# Altium integrated library TI_Logic_Specialty_Logic.IntLib: 2504 symbols (part 49 of 81)
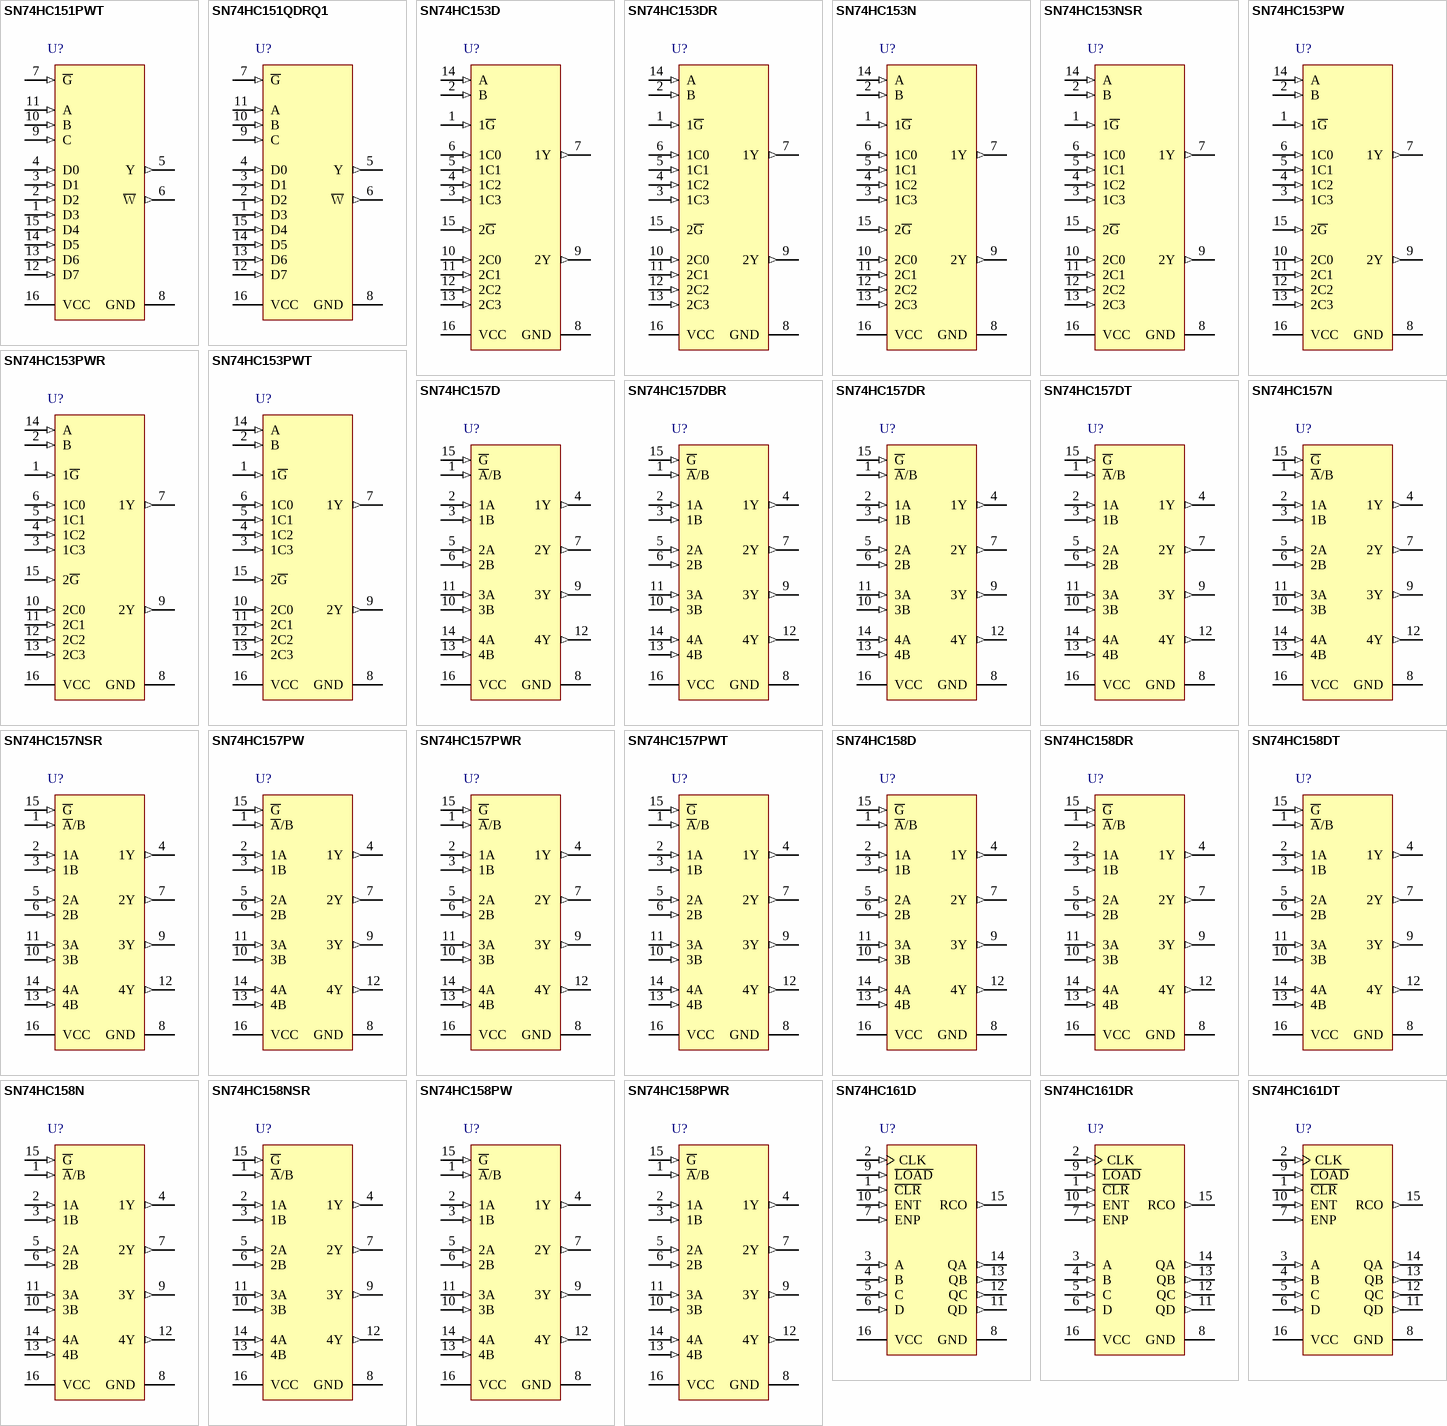
[diagram p152: symbols SN74HC151PWT to SN74HC161DT]

## SN74HC161DT
designator U?
4-Bit Synchronous Binary Counters, D0016A, SMALL T&R; Generic Part Number: SN74HC161; Manufacturer: Texas Instruments; PartNumber: SN74HC161DT; VCC(Min)(V): 2; VCC(Max)(V): 6; Output Type: CMOS; Inputs: 1; ICC @ Nom Voltage(Max)(mA): 0.08; Input Type: LVTTL/CMOS; Bits(#): 4; F @ Nom Voltage(Max)(Mhz): 28; Rating: Catalog; Technology Family: HC; Voltage(Nom)(V): 3.3,5; Schmitt Trigger: No; Output Drive (IOL/IOH)(Max)(mA): 5.2/-5.2; tpd @ Nom Voltage(Max)(ns): 46; DatasheetVersion: SCLS297D; PackageReference: D0016A; Supplier 1: Mouser; Supplier Part Number 1: 595-SN74HC161DT; Supplier 2: Digi-Key; Supplier Part Number 2: SN74HC161DT-ND; Function: Counter; Operating Temperature Range(C): -40 to 85; Type: Binary; Code_JEDEC: MS-012 variation AC; ComponentLink1Description: Manufacturer URL; ComponentLink1URL: http://www.ti.com/; ComponentLink2Description: Datasheet; ComponentLink2URL: http://www.ti.com/lit/ds/symlink/sn74hc161.pdf; ComponentLink3Description: Package Specification; ComponentLink3URL: http://www.ti.com/lit/ml/mpds178g/mpds178g.pdf
footprint D0016A_N (SOIC, 16-Leads, Body 10x4mm, Pitch 1.27mm, IPC Medium Density)
footprint D0016A_M (SOIC, 16-Leads, Body 10x4mm, Pitch 1.27mm, IPC Low Density)
footprint D0016A_L (SOIC, 16-Leads, Body 10x4mm, Pitch 1.27mm, IPC High Density)
pins: 1 ~{CLR} (in), 2 CLK (in), 3 A (in), 4 B (in), 5 C (in), 6 D (in), 7 ENP (in), 8 GND (power), 9 ~{LOAD} (in), 10 ENT (in), 11 QD (out), 12 QC (out), 13 QB (out), 14 QA (out), 15 RCO (out), 16 VCC (power)

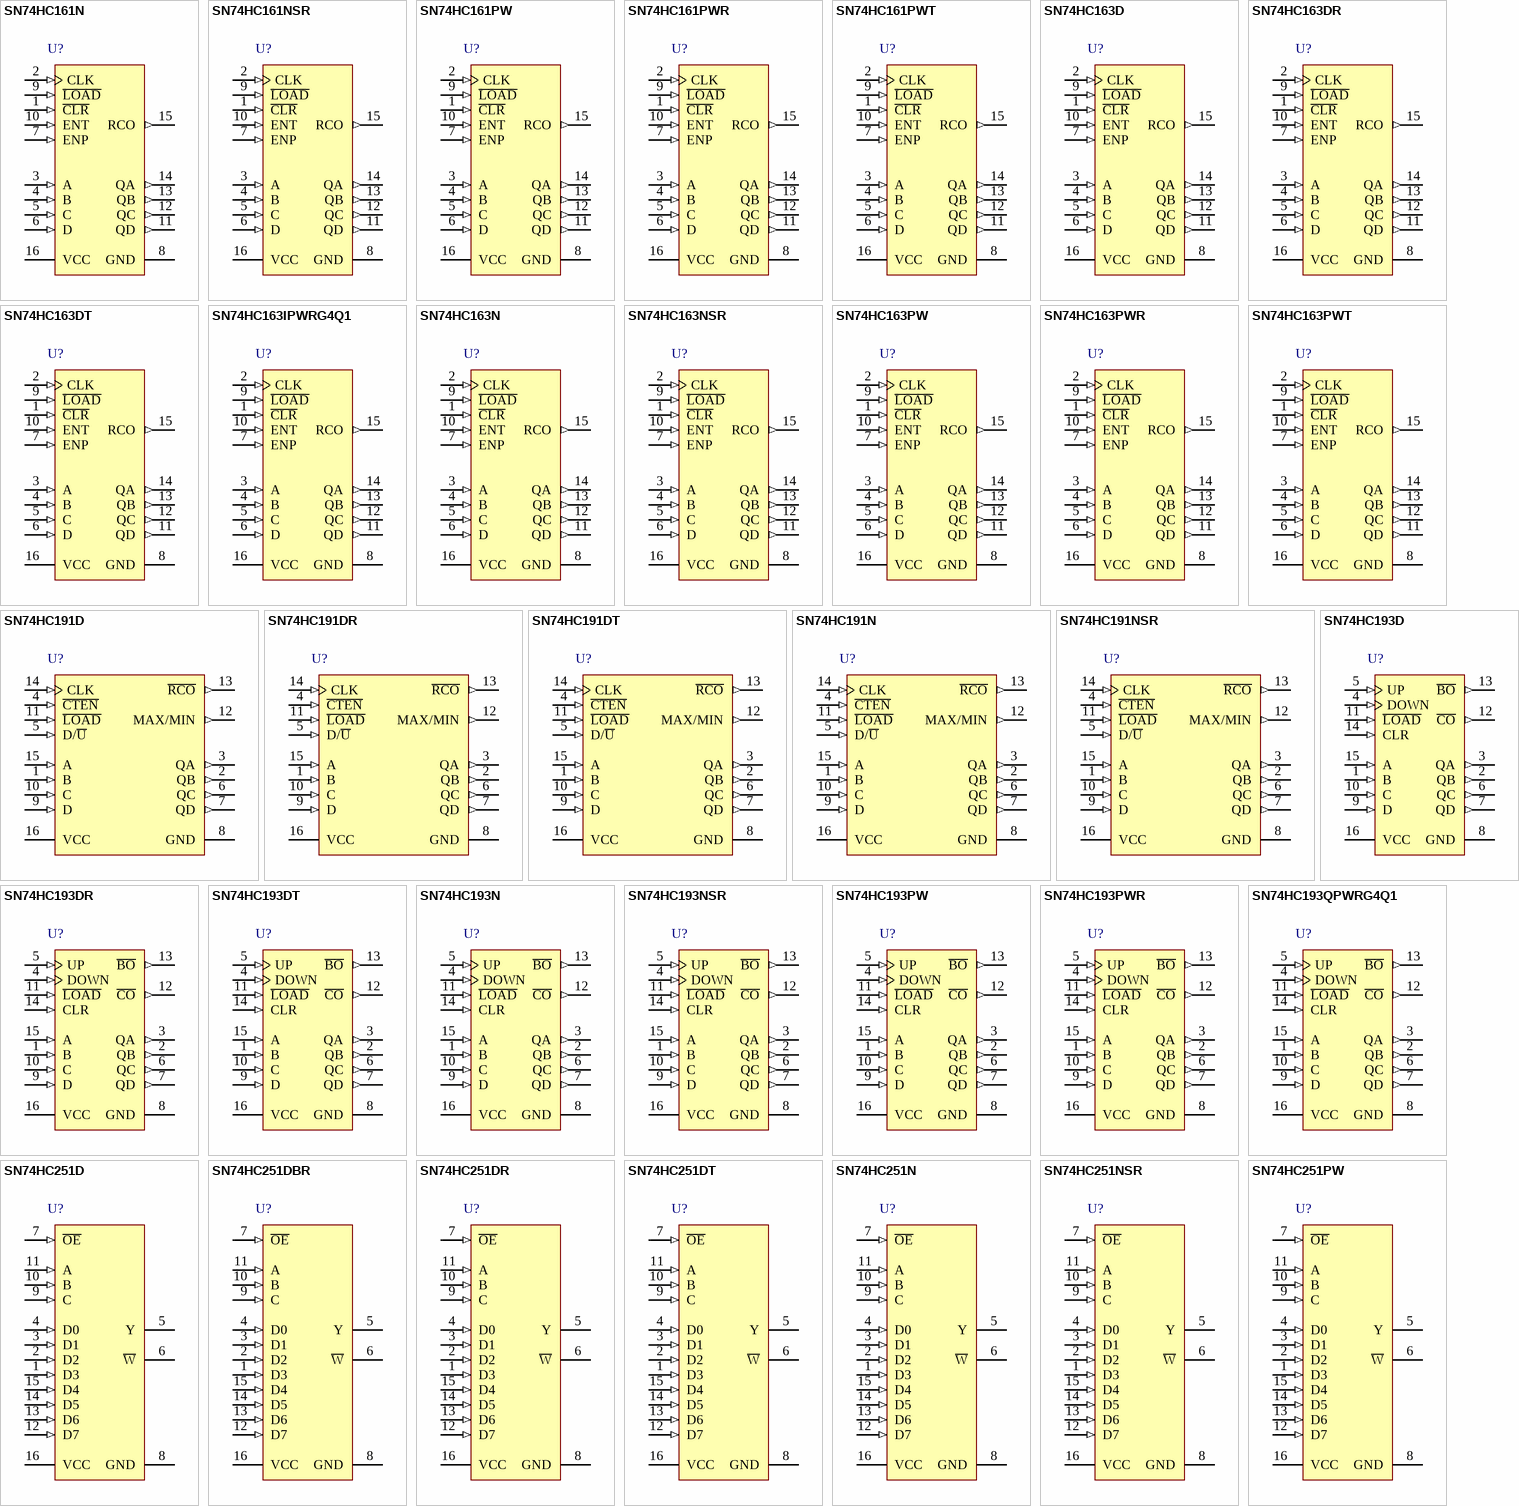
[diagram p62: symbols SN74HC161N to SN74HC251PW]

## SN74HC161N
designator U?
4-Bit Synchronous Binary Counters, N0016A, TUBE; Generic Part Number: SN74HC161; Manufacturer: Texas Instruments; PartNumber: SN74HC161N; VCC(Min)(V): 2; VCC(Max)(V): 6; Output Type: CMOS; Inputs: 1; ICC @ Nom Voltage(Max)(mA): 0.08; Input Type: LVTTL/CMOS; Bits(#): 4; F @ Nom Voltage(Max)(Mhz): 28; Rating: Catalog; Technology Family: HC; Voltage(Nom)(V): 3.3,5; Schmitt Trigger: No; Output Drive (IOL/IOH)(Max)(mA): 5.2/-5.2; tpd @ Nom Voltage(Max)(ns): 46; DatasheetVersion: SCLS297D; PackageReference: N0016A; Supplier 1: Mouser; Supplier Part Number 1: 595-SN74HC161N; Supplier 2: Digi-Key; Supplier Part Number 2: 296-8244-5-ND; Function: Counter; Operating Temperature Range(C): -40 to 85; Type: Binary; Code_JEDEC: MS-001; ComponentLink1Description: Manufacturer URL; ComponentLink1URL: http://www.ti.com/; ComponentLink2Description: Datasheet; ComponentLink2URL: http://www.ti.com/lit/ds/symlink/sn74hc161.pdf; ComponentLink3Description: Package Specification; ComponentLink3URL: http://www.ti.com/lit/ml/mpdi002c/mpdi002c.pdf
footprint N0016A (DIP, 16-Leads, Body 19.7x6.6mm, Pitch 2.54mm)
pins: 1 ~{CLR} (in), 2 CLK (in), 3 A (in), 4 B (in), 5 C (in), 6 D (in), 7 ENP (in), 8 GND (power), 9 ~{LOAD} (in), 10 ENT (in), 11 QD (out), 12 QC (out), 13 QB (out), 14 QA (out), 15 RCO (out), 16 VCC (power)

## SN74HC161NSR
designator U?
4-Bit Synchronous Binary Counters, NS0016A, LARGE T&R; Generic Part Number: SN74HC161; Manufacturer: Texas Instruments; PartNumber: SN74HC161NSR; VCC(Min)(V): 2; VCC(Max)(V): 6; Output Type: CMOS; Inputs: 1; ICC @ Nom Voltage(Max)(mA): 0.08; Input Type: LVTTL/CMOS; Bits(#): 4; F @ Nom Voltage(Max)(Mhz): 28; Rating: Catalog; Technology Family: HC; Voltage(Nom)(V): 3.3,5; Schmitt Trigger: No; Output Drive (IOL/IOH)(Max)(mA): 5.2/-5.2; tpd @ Nom Voltage(Max)(ns): 46; DatasheetVersion: SCLS297D; PackageReference: NS0016A; Supplier 1: Mouser; Supplier Part Number 1: 595-SN74HC161NSR; Supplier 2: Digi-Key; Supplier Part Number 2: 296-29976-2-ND; Supplier 3: Digi-Key; Supplier Part Number 3: 296-29976-1-ND; Supplier 4: Digi-Key; Supplier Part Number 4: 296-29976-6-ND; Function: Counter; Operating Temperature Range(C): -40 to 85; Type: Binary; ComponentLink1Description: Manufacturer URL; ComponentLink1URL: http://www.ti.com/; ComponentLink2Description: Datasheet; ComponentLink2URL: http://www.ti.com/lit/ds/symlink/sn74hc161.pdf; ComponentLink3Description: Package Specification; ComponentLink3URL: http://www.ti.com/lit/ml/msop002a/msop002a.pdf
footprint NS0016A_N (SOIC,16-Leads,Body 10.5x5.6mm,Pitch 1.27mm,IPC Medium Density)
footprint NS0016A_M (SOIC,16-Leads,Body 10.5x5.6mm,Pitch 1.27mm,IPC Low Density)
footprint NS0016A_L (SOIC,16-Leads,Body 10.5x5.6mm,Pitch 1.27mm,IPC High Density)
pins: 1 ~{CLR} (in), 2 CLK (in), 3 A (in), 4 B (in), 5 C (in), 6 D (in), 7 ENP (in), 8 GND (power), 9 ~{LOAD} (in), 10 ENT (in), 11 QD (out), 12 QC (out), 13 QB (out), 14 QA (out), 15 RCO (out), 16 VCC (power)

## SN74HC161PW
designator U?
4-Bit Synchronous Binary Counters, PW0016A, TUBE; Generic Part Number: SN74HC161; Manufacturer: Texas Instruments; PartNumber: SN74HC161PW; VCC(Min)(V): 2; VCC(Max)(V): 6; Output Type: CMOS; Inputs: 1; ICC @ Nom Voltage(Max)(mA): 0.08; Input Type: LVTTL/CMOS; Bits(#): 4; F @ Nom Voltage(Max)(Mhz): 28; Rating: Catalog; Technology Family: HC; Voltage(Nom)(V): 3.3,5; Schmitt Trigger: No; Output Drive (IOL/IOH)(Max)(mA): 5.2/-5.2; tpd @ Nom Voltage(Max)(ns): 46; DatasheetVersion: SCLS297D; PackageReference: PW0016A; Supplier 1: Mouser; Supplier Part Number 1: 595-SN74HC161PW; Supplier 2: Digi-Key; Supplier Part Number 2: 296-33922-5-ND; Function: Counter; Operating Temperature Range(C): -40 to 85; Type: Binary; Code_JEDEC: MO-153; ComponentLink1Description: Manufacturer URL; ComponentLink1URL: http://www.ti.com/; ComponentLink2Description: Datasheet; ComponentLink2URL: http://www.ti.com/lit/ds/symlink/sn74hc161.pdf; ComponentLink3Description: Package Specification; ComponentLink3URL: http://www.ti.com/lit/ml/mpds361/mpds361.pdf
footprint PW0016A_N (SOP, 16-Leads, Body 5.1x4.5mm, Pitch 0.65mm, IPC Medium Density)
footprint PW0016A_M (SOP, 16-Leads, Body 5.1x4.5mm, Pitch 0.65mm, IPC Low Density)
footprint PW0016A_L (SOP, 16-Leads, Body 5.1x4.5mm, Pitch 0.65mm, IPC High Density)
pins: 1 ~{CLR} (in), 2 CLK (in), 3 A (in), 4 B (in), 5 C (in), 6 D (in), 7 ENP (in), 8 GND (power), 9 ~{LOAD} (in), 10 ENT (in), 11 QD (out), 12 QC (out), 13 QB (out), 14 QA (out), 15 RCO (out), 16 VCC (power)

## SN74HC161PWR
designator U?
4-Bit Synchronous Binary Counters, PW0016A, LARGE T&R; Generic Part Number: SN74HC161; Manufacturer: Texas Instruments; PartNumber: SN74HC161PWR; VCC(Min)(V): 2; VCC(Max)(V): 6; Output Type: CMOS; Inputs: 1; ICC @ Nom Voltage(Max)(mA): 0.08; Input Type: LVTTL/CMOS; Bits(#): 4; F @ Nom Voltage(Max)(Mhz): 28; Rating: Catalog; Technology Family: HC; Voltage(Nom)(V): 3.3,5; Schmitt Trigger: No; Output Drive (IOL/IOH)(Max)(mA): 5.2/-5.2; tpd @ Nom Voltage(Max)(ns): 46; DatasheetVersion: SCLS297D; PackageReference: PW0016A; Supplier 1: Mouser; Supplier Part Number 1: 595-SN74HC161PWR; Supplier 2: Digi-Key; Supplier Part Number 2: 296-38231-2-ND; Supplier 3: Digi-Key; Supplier Part Number 3: 296-38231-1-ND; Supplier 4: Digi-Key; Supplier Part Number 4: 296-38231-6-ND; Function: Counter; Operating Temperature Range(C): -40 to 85; Type: Binary; Code_JEDEC: MO-153; ComponentLink1Description: Manufacturer URL; ComponentLink1URL: http://www.ti.com/; ComponentLink2Description: Datasheet; ComponentLink2URL: http://www.ti.com/lit/ds/symlink/sn74hc161.pdf; ComponentLink3Description: Package Specification; ComponentLink3URL: http://www.ti.com/lit/ml/mpds361/mpds361.pdf
footprint PW0016A_N (SOP, 16-Leads, Body 5.1x4.5mm, Pitch 0.65mm, IPC Medium Density)
footprint PW0016A_M (SOP, 16-Leads, Body 5.1x4.5mm, Pitch 0.65mm, IPC Low Density)
footprint PW0016A_L (SOP, 16-Leads, Body 5.1x4.5mm, Pitch 0.65mm, IPC High Density)
pins: 1 ~{CLR} (in), 2 CLK (in), 3 A (in), 4 B (in), 5 C (in), 6 D (in), 7 ENP (in), 8 GND (power), 9 ~{LOAD} (in), 10 ENT (in), 11 QD (out), 12 QC (out), 13 QB (out), 14 QA (out), 15 RCO (out), 16 VCC (power)

## SN74HC161PWT
designator U?
4-Bit Synchronous Binary Counters, PW0016A, SMALL T&R; Generic Part Number: SN74HC161; Manufacturer: Texas Instruments; PartNumber: SN74HC161PWT; VCC(Min)(V): 2; VCC(Max)(V): 6; Output Type: CMOS; Inputs: 1; ICC @ Nom Voltage(Max)(mA): 0.08; Input Type: LVTTL/CMOS; Bits(#): 4; F @ Nom Voltage(Max)(Mhz): 28; Rating: Catalog; Technology Family: HC; Voltage(Nom)(V): 3.3,5; Schmitt Trigger: No; Output Drive (IOL/IOH)(Max)(mA): 5.2/-5.2; tpd @ Nom Voltage(Max)(ns): 46; DatasheetVersion: SCLS297D; PackageReference: PW0016A; Supplier 1: Mouser; Supplier Part Number 1: 595-SN74HC161PWT; Supplier 2: Digi-Key; Supplier Part Number 2: 296-28657-2-ND; Supplier 3: Digi-Key; Supplier Part Number 3: 296-28657-1-ND; Supplier 4: Digi-Key; Supplier Part Number 4: 296-28657-6-ND; Function: Counter; Operating Temperature Range(C): -40 to 85; Type: Binary; Code_JEDEC: MO-153; ComponentLink1Description: Manufacturer URL; ComponentLink1URL: http://www.ti.com/; ComponentLink2Description: Datasheet; ComponentLink2URL: http://www.ti.com/lit/ds/symlink/sn74hc161.pdf; ComponentLink3Description: Package Specification; ComponentLink3URL: http://www.ti.com/lit/ml/mpds361/mpds361.pdf
footprint PW0016A_N (SOP, 16-Leads, Body 5.1x4.5mm, Pitch 0.65mm, IPC Medium Density)
footprint PW0016A_M (SOP, 16-Leads, Body 5.1x4.5mm, Pitch 0.65mm, IPC Low Density)
footprint PW0016A_L (SOP, 16-Leads, Body 5.1x4.5mm, Pitch 0.65mm, IPC High Density)
pins: 1 ~{CLR} (in), 2 CLK (in), 3 A (in), 4 B (in), 5 C (in), 6 D (in), 7 ENP (in), 8 GND (power), 9 ~{LOAD} (in), 10 ENT (in), 11 QD (out), 12 QC (out), 13 QB (out), 14 QA (out), 15 RCO (out), 16 VCC (power)

## SN74HC163D
designator U?
4-Bit Synchronous Binary Counters, D0016A, TUBE; Generic Part Number: SN74HC163; Manufacturer: Texas Instruments; PartNumber: SN74HC163D; VCC(Min)(V): 2; VCC(Max)(V): 6; Output Type: CMOS; Inputs: 1; ICC @ Nom Voltage(Max)(mA): 0.08; Input Type: LVTTL/CMOS; Bits(#): 4; F @ Nom Voltage(Max)(Mhz): 28; Rating: Catalog; Technology Family: HC; Voltage(Nom)(V): 3.3,5; Schmitt Trigger: No; Output Drive (IOL/IOH)(Max)(mA): 5.2/-5.2; tpd @ Nom Voltage(Max)(ns): 46; DatasheetVersion: SCLS298D; PackageReference: D0016A; Supplier 1: Mouser; Supplier Part Number 1: 595-SN74HC163D; Supplier 2: Digi-Key; Supplier Part Number 2: 296-8245-5-ND; Function: Counter; Operating Temperature Range(C): -40 to 85; Type: Binary; Code_JEDEC: MS-012 variation AC; ComponentLink1Description: Manufacturer URL; ComponentLink1URL: http://www.ti.com/; ComponentLink2Description: Datasheet; ComponentLink2URL: http://www.ti.com/lit/ds/symlink/sn74hc163.pdf; ComponentLink3Description: Package Specification; ComponentLink3URL: http://www.ti.com/lit/ml/mpds178g/mpds178g.pdf
footprint D0016A_N (SOIC, 16-Leads, Body 10x4mm, Pitch 1.27mm, IPC Medium Density)
footprint D0016A_M (SOIC, 16-Leads, Body 10x4mm, Pitch 1.27mm, IPC Low Density)
footprint D0016A_L (SOIC, 16-Leads, Body 10x4mm, Pitch 1.27mm, IPC High Density)
pins: 1 ~{CLR} (in), 2 CLK (in), 3 A (in), 4 B (in), 5 C (in), 6 D (in), 7 ENP (in), 8 GND (power), 9 ~{LOAD} (in), 10 ENT (in), 11 QD (out), 12 QC (out), 13 QB (out), 14 QA (out), 15 RCO (out), 16 VCC (power)

## SN74HC163DR
designator U?
4-Bit Synchronous Binary Counters, D0016A, LARGE T&R; Generic Part Number: SN74HC163; Manufacturer: Texas Instruments; PartNumber: SN74HC163DR; VCC(Min)(V): 2; VCC(Max)(V): 6; Output Type: CMOS; Inputs: 1; ICC @ Nom Voltage(Max)(mA): 0.08; Input Type: LVTTL/CMOS; Bits(#): 4; F @ Nom Voltage(Max)(Mhz): 28; Rating: Catalog; Technology Family: HC; Voltage(Nom)(V): 3.3,5; Schmitt Trigger: No; Output Drive (IOL/IOH)(Max)(mA): 5.2/-5.2; tpd @ Nom Voltage(Max)(ns): 46; DatasheetVersion: SCLS298D; PackageReference: D0016A; Supplier 1: Mouser; Supplier Part Number 1: 595-SN74HC163DR; Supplier 2: Digi-Key; Supplier Part Number 2: 296-31790-2-ND; Supplier 3: Digi-Key; Supplier Part Number 3: 296-31790-1-ND; Supplier 4: Digi-Key; Supplier Part Number 4: 296-31790-6-ND; Function: Counter; Operating Temperature Range(C): -40 to 85; Type: Binary; Code_JEDEC: MS-012 variation AC; ComponentLink1Description: Manufacturer URL; ComponentLink1URL: http://www.ti.com/; ComponentLink2Description: Datasheet; ComponentLink2URL: http://www.ti.com/lit/ds/symlink/sn74hc163.pdf; ComponentLink3Description: Package Specification; ComponentLink3URL: http://www.ti.com/lit/ml/mpds178g/mpds178g.pdf
footprint D0016A_N (SOIC, 16-Leads, Body 10x4mm, Pitch 1.27mm, IPC Medium Density)
footprint D0016A_M (SOIC, 16-Leads, Body 10x4mm, Pitch 1.27mm, IPC Low Density)
footprint D0016A_L (SOIC, 16-Leads, Body 10x4mm, Pitch 1.27mm, IPC High Density)
pins: 1 ~{CLR} (in), 2 CLK (in), 3 A (in), 4 B (in), 5 C (in), 6 D (in), 7 ENP (in), 8 GND (power), 9 ~{LOAD} (in), 10 ENT (in), 11 QD (out), 12 QC (out), 13 QB (out), 14 QA (out), 15 RCO (out), 16 VCC (power)

## SN74HC163DT
designator U?
4-Bit Synchronous Binary Counters, D0016A, SMALL T&R; Generic Part Number: SN74HC163; Manufacturer: Texas Instruments; PartNumber: SN74HC163DT; VCC(Min)(V): 2; VCC(Max)(V): 6; Output Type: CMOS; Inputs: 1; ICC @ Nom Voltage(Max)(mA): 0.08; Input Type: LVTTL/CMOS; Bits(#): 4; F @ Nom Voltage(Max)(Mhz): 28; Rating: Catalog; Technology Family: HC; Voltage(Nom)(V): 3.3,5; Schmitt Trigger: No; Output Drive (IOL/IOH)(Max)(mA): 5.2/-5.2; tpd @ Nom Voltage(Max)(ns): 46; DatasheetVersion: SCLS298D; PackageReference: D0016A; Supplier 1: Mouser; Supplier Part Number 1: 595-SN74HC163DT; Supplier 2: Digi-Key; Supplier Part Number 2: SN74HC163DT-ND; Function: Counter; Operating Temperature Range(C): -40 to 85; Type: Binary; Code_JEDEC: MS-012 variation AC; ComponentLink1Description: Manufacturer URL; ComponentLink1URL: http://www.ti.com/; ComponentLink2Description: Datasheet; ComponentLink2URL: http://www.ti.com/lit/ds/symlink/sn74hc163.pdf; ComponentLink3Description: Package Specification; ComponentLink3URL: http://www.ti.com/lit/ml/mpds178g/mpds178g.pdf
footprint D0016A_N (SOIC, 16-Leads, Body 10x4mm, Pitch 1.27mm, IPC Medium Density)
footprint D0016A_M (SOIC, 16-Leads, Body 10x4mm, Pitch 1.27mm, IPC Low Density)
footprint D0016A_L (SOIC, 16-Leads, Body 10x4mm, Pitch 1.27mm, IPC High Density)
pins: 1 ~{CLR} (in), 2 CLK (in), 3 A (in), 4 B (in), 5 C (in), 6 D (in), 7 ENP (in), 8 GND (power), 9 ~{LOAD} (in), 10 ENT (in), 11 QD (out), 12 QC (out), 13 QB (out), 14 QA (out), 15 RCO (out), 16 VCC (power)

## SN74HC163IPWRG4Q1
designator U?
Automotive Catalog 4-Bit Synchronous Binary Counters, PW0016A, LARGE T&R; Generic Part Number: SN74HC163-Q1; Manufacturer: Texas Instruments; PartNumber: SN74HC163IPWRG4Q1; VCC(Min)(V): 2; VCC(Max)(V): 6; Output Type: CMOS; Inputs: 1; ICC @ Nom Voltage(Max)(mA): 0.08; Input Type: LVTTL/CMOS; Bits(#): 4; F @ Nom Voltage(Max)(Mhz): 28; Technology Family: HC; Voltage(Nom)(V): 3.3,5; Schmitt Trigger: No; Output Drive (IOL/IOH)(Max)(mA): 5.2/-5.2; tpd @ Nom Voltage(Max)(ns): 46; DatasheetVersion: SCLS584A; PackageReference: PW0016A; Supplier 1: Mouser; Supplier Part Number 1: 595-N74HC163IPWRG4Q1; Supplier 2: Digi-Key; Supplier Part Number 2: 296-28965-2-ND; Supplier 3: Digi-Key; Supplier Part Number 3: 296-28965-1-ND; Supplier 4: Digi-Key; Supplier Part Number 4: 296-28965-6-ND; Function: Counter; Operating Temperature Range(C): -40 to 85; Type: Binary; Rating: Automotive; Code_JEDEC: MO-153; ComponentLink1Description: Manufacturer URL; ComponentLink1URL: http://www.ti.com/; ComponentLink2Description: Datasheet; ComponentLink2URL: http://www.ti.com/lit/ds/symlink/sn74hc163-q1.pdf; ComponentLink3Description: Package Specification; ComponentLink3URL: http://www.ti.com/lit/ml/mpds361/mpds361.pdf
footprint PW0016A_N (SOP, 16-Leads, Body 5.1x4.5mm, Pitch 0.65mm, IPC Medium Density)
footprint PW0016A_M (SOP, 16-Leads, Body 5.1x4.5mm, Pitch 0.65mm, IPC Low Density)
footprint PW0016A_L (SOP, 16-Leads, Body 5.1x4.5mm, Pitch 0.65mm, IPC High Density)
pins: 1 ~{CLR} (in), 2 CLK (in), 3 A (in), 4 B (in), 5 C (in), 6 D (in), 7 ENP (in), 8 GND (power), 9 ~{LOAD} (in), 10 ENT (in), 11 QD (out), 12 QC (out), 13 QB (out), 14 QA (out), 15 RCO (out), 16 VCC (power)

## SN74HC163N
designator U?
4-Bit Synchronous Binary Counters, N0016A, TUBE; Generic Part Number: SN74HC163; Manufacturer: Texas Instruments; PartNumber: SN74HC163N; VCC(Min)(V): 2; VCC(Max)(V): 6; Output Type: CMOS; Inputs: 1; ICC @ Nom Voltage(Max)(mA): 0.08; Input Type: LVTTL/CMOS; Bits(#): 4; F @ Nom Voltage(Max)(Mhz): 28; Rating: Catalog; Technology Family: HC; Voltage(Nom)(V): 3.3,5; Schmitt Trigger: No; Output Drive (IOL/IOH)(Max)(mA): 5.2/-5.2; tpd @ Nom Voltage(Max)(ns): 46; DatasheetVersion: SCLS298D; PackageReference: N0016A; Supplier 1: Mouser; Supplier Part Number 1: 595-SN74HC163N; Supplier 2: Digi-Key; Supplier Part Number 2: 296-8246-5-ND; Function: Counter; Operating Temperature Range(C): -40 to 85; Type: Binary; Code_JEDEC: MS-001; ComponentLink1Description: Manufacturer URL; ComponentLink1URL: http://www.ti.com/; ComponentLink2Description: Datasheet; ComponentLink2URL: http://www.ti.com/lit/ds/symlink/sn74hc163.pdf; ComponentLink3Description: Package Specification; ComponentLink3URL: http://www.ti.com/lit/ml/mpdi002c/mpdi002c.pdf
footprint N0016A (DIP, 16-Leads, Body 19.7x6.6mm, Pitch 2.54mm)
pins: 1 ~{CLR} (in), 2 CLK (in), 3 A (in), 4 B (in), 5 C (in), 6 D (in), 7 ENP (in), 8 GND (power), 9 ~{LOAD} (in), 10 ENT (in), 11 QD (out), 12 QC (out), 13 QB (out), 14 QA (out), 15 RCO (out), 16 VCC (power)

## SN74HC163NSR
designator U?
4-Bit Synchronous Binary Counters, NS0016A, LARGE T&R; Generic Part Number: SN74HC163; Manufacturer: Texas Instruments; PartNumber: SN74HC163NSR; VCC(Min)(V): 2; VCC(Max)(V): 6; Output Type: CMOS; Inputs: 1; ICC @ Nom Voltage(Max)(mA): 0.08; Input Type: LVTTL/CMOS; Bits(#): 4; F @ Nom Voltage(Max)(Mhz): 28; Rating: Catalog; Technology Family: HC; Voltage(Nom)(V): 3.3,5; Schmitt Trigger: No; Output Drive (IOL/IOH)(Max)(mA): 5.2/-5.2; tpd @ Nom Voltage(Max)(ns): 46; DatasheetVersion: SCLS298D; PackageReference: NS0016A; Supplier 1: Mouser; Supplier Part Number 1: 595-SN74HC163NSR; Supplier 2: Digi-Key; Supplier Part Number 2: 296-12889-2-ND; Supplier 3: Digi-Key; Supplier Part Number 3: 296-12889-1-ND; Supplier 4: Digi-Key; Supplier Part Number 4: 296-12889-6-ND; Function: Counter; Operating Temperature Range(C): -40 to 85; Type: Binary; ComponentLink1Description: Manufacturer URL; ComponentLink1URL: http://www.ti.com/; ComponentLink2Description: Datasheet; ComponentLink2URL: http://www.ti.com/lit/ds/symlink/sn74hc163.pdf; ComponentLink3Description: Package Specification; ComponentLink3URL: http://www.ti.com/lit/ml/msop002a/msop002a.pdf
footprint NS0016A_N (SOIC,16-Leads,Body 10.5x5.6mm,Pitch 1.27mm,IPC Medium Density)
footprint NS0016A_M (SOIC,16-Leads,Body 10.5x5.6mm,Pitch 1.27mm,IPC Low Density)
footprint NS0016A_L (SOIC,16-Leads,Body 10.5x5.6mm,Pitch 1.27mm,IPC High Density)
pins: 1 ~{CLR} (in), 2 CLK (in), 3 A (in), 4 B (in), 5 C (in), 6 D (in), 7 ENP (in), 8 GND (power), 9 ~{LOAD} (in), 10 ENT (in), 11 QD (out), 12 QC (out), 13 QB (out), 14 QA (out), 15 RCO (out), 16 VCC (power)

## SN74HC163PW
designator U?
4-Bit Synchronous Binary Counters, PW0016A, TUBE; Generic Part Number: SN74HC163; Manufacturer: Texas Instruments; PartNumber: SN74HC163PW; VCC(Min)(V): 2; VCC(Max)(V): 6; Output Type: CMOS; Inputs: 1; ICC @ Nom Voltage(Max)(mA): 0.08; Input Type: LVTTL/CMOS; Bits(#): 4; F @ Nom Voltage(Max)(Mhz): 28; Rating: Catalog; Technology Family: HC; Voltage(Nom)(V): 3.3,5; Schmitt Trigger: No; Output Drive (IOL/IOH)(Max)(mA): 5.2/-5.2; tpd @ Nom Voltage(Max)(ns): 46; DatasheetVersion: SCLS298D; PackageReference: PW0016A; Supplier 1: Mouser; Supplier Part Number 1: 595-SN74HC163PW; Supplier 2: Digi-Key; Supplier Part Number 2: SN74HC163PW-ND; Function: Counter; Operating Temperature Range(C): -40 to 85; Type: Binary; Code_JEDEC: MO-153; ComponentLink1Description: Manufacturer URL; ComponentLink1URL: http://www.ti.com/; ComponentLink2Description: Datasheet; ComponentLink2URL: http://www.ti.com/lit/ds/symlink/sn74hc163.pdf; ComponentLink3Description: Package Specification; ComponentLink3URL: http://www.ti.com/lit/ml/mpds361/mpds361.pdf
footprint PW0016A_N (SOP, 16-Leads, Body 5.1x4.5mm, Pitch 0.65mm, IPC Medium Density)
footprint PW0016A_M (SOP, 16-Leads, Body 5.1x4.5mm, Pitch 0.65mm, IPC Low Density)
footprint PW0016A_L (SOP, 16-Leads, Body 5.1x4.5mm, Pitch 0.65mm, IPC High Density)
pins: 1 ~{CLR} (in), 2 CLK (in), 3 A (in), 4 B (in), 5 C (in), 6 D (in), 7 ENP (in), 8 GND (power), 9 ~{LOAD} (in), 10 ENT (in), 11 QD (out), 12 QC (out), 13 QB (out), 14 QA (out), 15 RCO (out), 16 VCC (power)

## SN74HC163PWR
designator U?
4-Bit Synchronous Binary Counters, PW0016A, LARGE T&R; Generic Part Number: SN74HC163; Manufacturer: Texas Instruments; PartNumber: SN74HC163PWR; VCC(Min)(V): 2; VCC(Max)(V): 6; Output Type: CMOS; Inputs: 1; ICC @ Nom Voltage(Max)(mA): 0.08; Input Type: LVTTL/CMOS; Bits(#): 4; F @ Nom Voltage(Max)(Mhz): 28; Rating: Catalog; Technology Family: HC; Voltage(Nom)(V): 3.3,5; Schmitt Trigger: No; Output Drive (IOL/IOH)(Max)(mA): 5.2/-5.2; tpd @ Nom Voltage(Max)(ns): 46; DatasheetVersion: SCLS298D; PackageReference: PW0016A; Supplier 1: Mouser; Supplier Part Number 1: 595-SN74HC163PWR; Supplier 2: Digi-Key; Supplier Part Number 2: SN74HC163PWR-ND; Function: Counter; Operating Temperature Range(C): -40 to 85; Type: Binary; Code_JEDEC: MO-153; ComponentLink1Description: Manufacturer URL; ComponentLink1URL: http://www.ti.com/; ComponentLink2Description: Datasheet; ComponentLink2URL: http://www.ti.com/lit/ds/symlink/sn74hc163.pdf; ComponentLink3Description: Package Specification; ComponentLink3URL: http://www.ti.com/lit/ml/mpds361/mpds361.pdf
footprint PW0016A_N (SOP, 16-Leads, Body 5.1x4.5mm, Pitch 0.65mm, IPC Medium Density)
footprint PW0016A_M (SOP, 16-Leads, Body 5.1x4.5mm, Pitch 0.65mm, IPC Low Density)
footprint PW0016A_L (SOP, 16-Leads, Body 5.1x4.5mm, Pitch 0.65mm, IPC High Density)
pins: 1 ~{CLR} (in), 2 CLK (in), 3 A (in), 4 B (in), 5 C (in), 6 D (in), 7 ENP (in), 8 GND (power), 9 ~{LOAD} (in), 10 ENT (in), 11 QD (out), 12 QC (out), 13 QB (out), 14 QA (out), 15 RCO (out), 16 VCC (power)

## SN74HC163PWT
designator U?
4-Bit Synchronous Binary Counters, PW0016A, SMALL T&R; Generic Part Number: SN74HC163; Manufacturer: Texas Instruments; PartNumber: SN74HC163PWT; VCC(Min)(V): 2; VCC(Max)(V): 6; Output Type: CMOS; Inputs: 1; ICC @ Nom Voltage(Max)(mA): 0.08; Input Type: LVTTL/CMOS; Bits(#): 4; F @ Nom Voltage(Max)(Mhz): 28; Rating: Catalog; Technology Family: HC; Voltage(Nom)(V): 3.3,5; Schmitt Trigger: No; Output Drive (IOL/IOH)(Max)(mA): 5.2/-5.2; tpd @ Nom Voltage(Max)(ns): 46; DatasheetVersion: SCLS298D; PackageReference: PW0016A; Supplier 1: Mouser; Supplier Part Number 1: 595-SN74HC163PWT; Supplier 2: Digi-Key; Supplier Part Number 2: SN74HC163PWT-ND; Function: Counter; Operating Temperature Range(C): -40 to 85; Type: Binary; Code_JEDEC: MO-153; ComponentLink1Description: Manufacturer URL; ComponentLink1URL: http://www.ti.com/; ComponentLink2Description: Datasheet; ComponentLink2URL: http://www.ti.com/lit/ds/symlink/sn74hc163.pdf; ComponentLink3Description: Package Specification; ComponentLink3URL: http://www.ti.com/lit/ml/mpds361/mpds361.pdf
footprint PW0016A_N (SOP, 16-Leads, Body 5.1x4.5mm, Pitch 0.65mm, IPC Medium Density)
footprint PW0016A_M (SOP, 16-Leads, Body 5.1x4.5mm, Pitch 0.65mm, IPC Low Density)
footprint PW0016A_L (SOP, 16-Leads, Body 5.1x4.5mm, Pitch 0.65mm, IPC High Density)
pins: 1 ~{CLR} (in), 2 CLK (in), 3 A (in), 4 B (in), 5 C (in), 6 D (in), 7 ENP (in), 8 GND (power), 9 ~{LOAD} (in), 10 ENT (in), 11 QD (out), 12 QC (out), 13 QB (out), 14 QA (out), 15 RCO (out), 16 VCC (power)

## SN74HC191D
designator U?
4-Bit Synchronous Up/Down Binary Counters, D0016A, TUBE; Generic Part Number: SN74HC191; Manufacturer: Texas Instruments; PartNumber: SN74HC191D; VCC(Min)(V): 2; VCC(Max)(V): 6; Output Type: CMOS; Inputs: 1; ICC @ Nom Voltage(Max)(mA): 0.08; Input Type: LVTTL/CMOS; Bits(#): 4; F @ Nom Voltage(Max)(Mhz): 28; Rating: Catalog; Technology Family: HC; Voltage(Nom)(V): 3.3,5; Schmitt Trigger: No; Output Drive (IOL/IOH)(Max)(mA): 5.2/-5.2; tpd @ Nom Voltage(Max)(ns): 41; DatasheetVersion: SCLS121D; PackageReference: D0016A; Supplier 1: Mouser; Supplier Part Number 1: 595-SN74HC191D; Supplier 2: Digi-Key; Supplier Part Number 2: 296-8259-5-ND; Function: Counter; Operating Temperature Range(C): -40 to 85; Type: Binary; Code_JEDEC: MS-012 variation AC; ComponentLink1Description: Manufacturer URL; ComponentLink1URL: http://www.ti.com/; ComponentLink2Description: Datasheet; ComponentLink2URL: http://www.ti.com/lit/ds/symlink/sn74hc191.pdf; ComponentLink3Description: Package Specification; ComponentLink3URL: http://www.ti.com/lit/ml/mpds178g/mpds178g.pdf
footprint D0016A_N (SOIC, 16-Leads, Body 10x4mm, Pitch 1.27mm, IPC Medium Density)
footprint D0016A_M (SOIC, 16-Leads, Body 10x4mm, Pitch 1.27mm, IPC Low Density)
footprint D0016A_L (SOIC, 16-Leads, Body 10x4mm, Pitch 1.27mm, IPC High Density)
pins: 1 B (in), 2 QB (out), 3 QA (out), 4 ~{CTEN} (in), 5 D/~{U} (in), 6 QC (out), 7 QD (out), 8 GND (power), 9 D (in), 10 C (in), 11 ~{LOAD} (in), 12 MAX/MIN (out), 13 ~{RCO} (out), 14 CLK (in), 15 A (in), 16 VCC (power)

## SN74HC191DR
designator U?
4-Bit Synchronous Up/Down Binary Counters, D0016A, LARGE T&R; Generic Part Number: SN74HC191; Manufacturer: Texas Instruments; PartNumber: SN74HC191DR; VCC(Min)(V): 2; VCC(Max)(V): 6; Output Type: CMOS; Inputs: 1; ICC @ Nom Voltage(Max)(mA): 0.08; Input Type: LVTTL/CMOS; Bits(#): 4; F @ Nom Voltage(Max)(Mhz): 28; Rating: Catalog; Technology Family: HC; Voltage(Nom)(V): 3.3,5; Schmitt Trigger: No; Output Drive (IOL/IOH)(Max)(mA): 5.2/-5.2; tpd @ Nom Voltage(Max)(ns): 41; DatasheetVersion: SCLS121D; PackageReference: D0016A; Supplier 1: Mouser; Supplier Part Number 1: 595-SN74HC191DR; Supplier 2: Digi-Key; Supplier Part Number 2: 296-14841-2-ND; Supplier 3: Digi-Key; Supplier Part Number 3: 296-14841-1-ND; Supplier 4: Digi-Key; Supplier Part Number 4: 296-14841-6-ND; Function: Counter; Operating Temperature Range(C): -40 to 85; Type: Binary; Code_JEDEC: MS-012 variation AC; ComponentLink1Description: Manufacturer URL; ComponentLink1URL: http://www.ti.com/; ComponentLink2Description: Datasheet; ComponentLink2URL: http://www.ti.com/lit/ds/symlink/sn74hc191.pdf; ComponentLink3Description: Package Specification; ComponentLink3URL: http://www.ti.com/lit/ml/mpds178g/mpds178g.pdf
footprint D0016A_N (SOIC, 16-Leads, Body 10x4mm, Pitch 1.27mm, IPC Medium Density)
footprint D0016A_M (SOIC, 16-Leads, Body 10x4mm, Pitch 1.27mm, IPC Low Density)
footprint D0016A_L (SOIC, 16-Leads, Body 10x4mm, Pitch 1.27mm, IPC High Density)
pins: 1 B (in), 2 QB (out), 3 QA (out), 4 ~{CTEN} (in), 5 D/~{U} (in), 6 QC (out), 7 QD (out), 8 GND (power), 9 D (in), 10 C (in), 11 ~{LOAD} (in), 12 MAX/MIN (out), 13 ~{RCO} (out), 14 CLK (in), 15 A (in), 16 VCC (power)

## SN74HC191DT
designator U?
4-Bit Synchronous Up/Down Binary Counters, D0016A, SMALL T&R; Generic Part Number: SN74HC191; Manufacturer: Texas Instruments; PartNumber: SN74HC191DT; VCC(Min)(V): 2; VCC(Max)(V): 6; Output Type: CMOS; Inputs: 1; ICC @ Nom Voltage(Max)(mA): 0.08; Input Type: LVTTL/CMOS; Bits(#): 4; F @ Nom Voltage(Max)(Mhz): 28; Rating: Catalog; Technology Family: HC; Voltage(Nom)(V): 3.3,5; Schmitt Trigger: No; Output Drive (IOL/IOH)(Max)(mA): 5.2/-5.2; tpd @ Nom Voltage(Max)(ns): 41; DatasheetVersion: SCLS121D; PackageReference: D0016A; Supplier 1: Mouser; Supplier Part Number 1: 595-SN74HC191DT; Supplier 2: Digi-Key; Supplier Part Number 2: SN74HC191DT-ND; Function: Counter; Operating Temperature Range(C): -40 to 85; Type: Binary; Code_JEDEC: MS-012 variation AC; ComponentLink1Description: Manufacturer URL; ComponentLink1URL: http://www.ti.com/; ComponentLink2Description: Datasheet; ComponentLink2URL: http://www.ti.com/lit/ds/symlink/sn74hc191.pdf; ComponentLink3Description: Package Specification; ComponentLink3URL: http://www.ti.com/lit/ml/mpds178g/mpds178g.pdf
footprint D0016A_N (SOIC, 16-Leads, Body 10x4mm, Pitch 1.27mm, IPC Medium Density)
footprint D0016A_M (SOIC, 16-Leads, Body 10x4mm, Pitch 1.27mm, IPC Low Density)
footprint D0016A_L (SOIC, 16-Leads, Body 10x4mm, Pitch 1.27mm, IPC High Density)
pins: 1 B (in), 2 QB (out), 3 QA (out), 4 ~{CTEN} (in), 5 D/~{U} (in), 6 QC (out), 7 QD (out), 8 GND (power), 9 D (in), 10 C (in), 11 ~{LOAD} (in), 12 MAX/MIN (out), 13 ~{RCO} (out), 14 CLK (in), 15 A (in), 16 VCC (power)

## SN74HC191N
designator U?
4-Bit Synchronous Up/Down Binary Counters, N0016A, TUBE; Generic Part Number: SN74HC191; Manufacturer: Texas Instruments; PartNumber: SN74HC191N; VCC(Min)(V): 2; VCC(Max)(V): 6; Output Type: CMOS; Inputs: 1; ICC @ Nom Voltage(Max)(mA): 0.08; Input Type: LVTTL/CMOS; Bits(#): 4; F @ Nom Voltage(Max)(Mhz): 28; Rating: Catalog; Technology Family: HC; Voltage(Nom)(V): 3.3,5; Schmitt Trigger: No; Output Drive (IOL/IOH)(Max)(mA): 5.2/-5.2; tpd @ Nom Voltage(Max)(ns): 41; DatasheetVersion: SCLS121D; PackageReference: N0016A; Supplier 1: Mouser; Supplier Part Number 1: 595-SN74HC191N; Supplier 2: Digi-Key; Supplier Part Number 2: 296-8260-5-ND; Function: Counter; Operating Temperature Range(C): -40 to 85; Type: Binary; Code_JEDEC: MS-001; ComponentLink1Description: Manufacturer URL; ComponentLink1URL: http://www.ti.com/; ComponentLink2Description: Datasheet; ComponentLink2URL: http://www.ti.com/lit/ds/symlink/sn74hc191.pdf; ComponentLink3Description: Package Specification; ComponentLink3URL: http://www.ti.com/lit/ml/mpdi002c/mpdi002c.pdf
footprint N0016A (DIP, 16-Leads, Body 19.7x6.6mm, Pitch 2.54mm)
pins: 1 B (in), 2 QB (out), 3 QA (out), 4 ~{CTEN} (in), 5 D/~{U} (in), 6 QC (out), 7 QD (out), 8 GND (power), 9 D (in), 10 C (in), 11 ~{LOAD} (in), 12 MAX/MIN (out), 13 ~{RCO} (out), 14 CLK (in), 15 A (in), 16 VCC (power)

## SN74HC191NSR
designator U?
4-Bit Synchronous Up/Down Binary Counters, NS0016A, LARGE T&R; Generic Part Number: SN74HC191; Manufacturer: Texas Instruments; PartNumber: SN74HC191NSR; VCC(Min)(V): 2; VCC(Max)(V): 6; Output Type: CMOS; Inputs: 1; ICC @ Nom Voltage(Max)(mA): 0.08; Input Type: LVTTL/CMOS; Bits(#): 4; F @ Nom Voltage(Max)(Mhz): 28; Rating: Catalog; Technology Family: HC; Voltage(Nom)(V): 3.3,5; Schmitt Trigger: No; Output Drive (IOL/IOH)(Max)(mA): 5.2/-5.2; tpd @ Nom Voltage(Max)(ns): 41; DatasheetVersion: SCLS121D; PackageReference: NS0016A; Supplier 1: Mouser; Supplier Part Number 1: 595-SN74HC191NSR; Supplier 2: Digi-Key; Supplier Part Number 2: 296-12890-2-ND; Supplier 3: Digi-Key; Supplier Part Number 3: 296-12890-1-ND; Supplier 4: Digi-Key; Supplier Part Number 4: 296-12890-6-ND; Function: Counter; Operating Temperature Range(C): -40 to 85; Type: Binary; ComponentLink1Description: Manufacturer URL; ComponentLink1URL: http://www.ti.com/; ComponentLink2Description: Datasheet; ComponentLink2URL: http://www.ti.com/lit/ds/symlink/sn74hc191.pdf; ComponentLink3Description: Package Specification; ComponentLink3URL: http://www.ti.com/lit/ml/msop002a/msop002a.pdf
footprint NS0016A_N (SOIC,16-Leads,Body 10.5x5.6mm,Pitch 1.27mm,IPC Medium Density)
footprint NS0016A_M (SOIC,16-Leads,Body 10.5x5.6mm,Pitch 1.27mm,IPC Low Density)
footprint NS0016A_L (SOIC,16-Leads,Body 10.5x5.6mm,Pitch 1.27mm,IPC High Density)
pins: 1 B (in), 2 QB (out), 3 QA (out), 4 ~{CTEN} (in), 5 D/~{U} (in), 6 QC (out), 7 QD (out), 8 GND (power), 9 D (in), 10 C (in), 11 ~{LOAD} (in), 12 MAX/MIN (out), 13 ~{RCO} (out), 14 CLK (in), 15 A (in), 16 VCC (power)

## SN74HC193D
designator U?
4-Bit Synchronous Up/Down Counters (Dual Clock With Clear), D0016A, TUBE; Generic Part Number: SN74HC193; Manufacturer: Texas Instruments; PartNumber: SN74HC193D; VCC(Min)(V): 2; VCC(Max)(V): 6; Output Type: CMOS; Inputs: 1; ICC @ Nom Voltage(Max)(mA): 0.08; Input Type: LVTTL/CMOS; Bits(#): 4; F @ Nom Voltage(Max)(Mhz): 28; Rating: Catalog; Technology Family: HC; Voltage(Nom)(V): 3.3,5; Schmitt Trigger: No; Output Drive (IOL/IOH)(Max)(mA): 5.2/-5.2; tpd @ Nom Voltage(Max)(ns): 55; DatasheetVersion: SCLS122D; PackageReference: D0016A; Supplier 1: Mouser; Supplier Part Number 1: 595-SN74HC193D; Supplier 2: Digi-Key; Supplier Part Number 2: 296-8261-5-ND; Function: Counter; Operating Temperature Range(C): -40 to 85; Type: Binary; Code_JEDEC: MS-012 variation AC; ComponentLink1Description: Manufacturer URL; ComponentLink1URL: http://www.ti.com/; ComponentLink2Description: Datasheet; ComponentLink2URL: http://www.ti.com/lit/ds/symlink/sn74hc193.pdf; ComponentLink3Description: Package Specification; ComponentLink3URL: http://www.ti.com/lit/ml/mpds178g/mpds178g.pdf
footprint D0016A_N (SOIC, 16-Leads, Body 10x4mm, Pitch 1.27mm, IPC Medium Density)
footprint D0016A_M (SOIC, 16-Leads, Body 10x4mm, Pitch 1.27mm, IPC Low Density)
footprint D0016A_L (SOIC, 16-Leads, Body 10x4mm, Pitch 1.27mm, IPC High Density)
pins: 1 B (in), 2 QB (out), 3 QA (out), 4 DOWN (in), 5 UP (in), 6 QC (out), 7 QD (out), 8 GND (power), 9 D (in), 10 C (in), 11 ~{LOAD} (in), 12 ~{CO} (out), 13 ~{BO} (out), 14 CLR (in), 15 A (in), 16 VCC (power)

## SN74HC193DR
designator U?
4-Bit Synchronous Up/Down Counters (Dual Clock With Clear), D0016A, LARGE T&R; Generic Part Number: SN74HC193; Manufacturer: Texas Instruments; PartNumber: SN74HC193DR; VCC(Min)(V): 2; VCC(Max)(V): 6; Output Type: CMOS; Inputs: 1; ICC @ Nom Voltage(Max)(mA): 0.08; Input Type: LVTTL/CMOS; Bits(#): 4; F @ Nom Voltage(Max)(Mhz): 28; Rating: Catalog; Technology Family: HC; Voltage(Nom)(V): 3.3,5; Schmitt Trigger: No; Output Drive (IOL/IOH)(Max)(mA): 5.2/-5.2; tpd @ Nom Voltage(Max)(ns): 55; DatasheetVersion: SCLS122D; PackageReference: D0016A; Supplier 1: Mouser; Supplier Part Number 1: 595-SN74HC193DR; Supplier 2: Digi-Key; Supplier Part Number 2: 296-41634-2-ND; Supplier 3: Digi-Key; Supplier Part Number 3: 296-41634-1-ND; Supplier 4: Digi-Key; Supplier Part Number 4: 296-41634-6-ND; Function: Counter; Operating Temperature Range(C): -40 to 85; Type: Binary; Code_JEDEC: MS-012 variation AC; ComponentLink1Description: Manufacturer URL; ComponentLink1URL: http://www.ti.com/; ComponentLink2Description: Datasheet; ComponentLink2URL: http://www.ti.com/lit/ds/symlink/sn74hc193.pdf; ComponentLink3Description: Package Specification; ComponentLink3URL: http://www.ti.com/lit/ml/mpds178g/mpds178g.pdf
footprint D0016A_N (SOIC, 16-Leads, Body 10x4mm, Pitch 1.27mm, IPC Medium Density)
footprint D0016A_M (SOIC, 16-Leads, Body 10x4mm, Pitch 1.27mm, IPC Low Density)
footprint D0016A_L (SOIC, 16-Leads, Body 10x4mm, Pitch 1.27mm, IPC High Density)
pins: 1 B (in), 2 QB (out), 3 QA (out), 4 DOWN (in), 5 UP (in), 6 QC (out), 7 QD (out), 8 GND (power), 9 D (in), 10 C (in), 11 ~{LOAD} (in), 12 ~{CO} (out), 13 ~{BO} (out), 14 CLR (in), 15 A (in), 16 VCC (power)

## SN74HC193DT
designator U?
4-Bit Synchronous Up/Down Counters (Dual Clock With Clear), D0016A, SMALL T&R; Generic Part Number: SN74HC193; Manufacturer: Texas Instruments; PartNumber: SN74HC193DT; VCC(Min)(V): 2; VCC(Max)(V): 6; Output Type: CMOS; Inputs: 1; ICC @ Nom Voltage(Max)(mA): 0.08; Input Type: LVTTL/CMOS; Bits(#): 4; F @ Nom Voltage(Max)(Mhz): 28; Rating: Catalog; Technology Family: HC; Voltage(Nom)(V): 3.3,5; Schmitt Trigger: No; Output Drive (IOL/IOH)(Max)(mA): 5.2/-5.2; tpd @ Nom Voltage(Max)(ns): 55; DatasheetVersion: SCLS122D; PackageReference: D0016A; Supplier 1: Mouser; Supplier Part Number 1: 595-SN74HC193DT; Supplier 2: Digi-Key; Supplier Part Number 2: SN74HC193DT-ND; Function: Counter; Operating Temperature Range(C): -40 to 85; Type: Binary; Code_JEDEC: MS-012 variation AC; ComponentLink1Description: Manufacturer URL; ComponentLink1URL: http://www.ti.com/; ComponentLink2Description: Datasheet; ComponentLink2URL: http://www.ti.com/lit/ds/symlink/sn74hc193.pdf; ComponentLink3Description: Package Specification; ComponentLink3URL: http://www.ti.com/lit/ml/mpds178g/mpds178g.pdf
footprint D0016A_N (SOIC, 16-Leads, Body 10x4mm, Pitch 1.27mm, IPC Medium Density)
footprint D0016A_M (SOIC, 16-Leads, Body 10x4mm, Pitch 1.27mm, IPC Low Density)
footprint D0016A_L (SOIC, 16-Leads, Body 10x4mm, Pitch 1.27mm, IPC High Density)
pins: 1 B (in), 2 QB (out), 3 QA (out), 4 DOWN (in), 5 UP (in), 6 QC (out), 7 QD (out), 8 GND (power), 9 D (in), 10 C (in), 11 ~{LOAD} (in), 12 ~{CO} (out), 13 ~{BO} (out), 14 CLR (in), 15 A (in), 16 VCC (power)

## SN74HC193N
designator U?
4-Bit Synchronous Up/Down Counters (Dual Clock With Clear), N0016A, TUBE; Generic Part Number: SN74HC193; Manufacturer: Texas Instruments; PartNumber: SN74HC193N; VCC(Min)(V): 2; VCC(Max)(V): 6; Output Type: CMOS; Inputs: 1; ICC @ Nom Voltage(Max)(mA): 0.08; Input Type: LVTTL/CMOS; Bits(#): 4; F @ Nom Voltage(Max)(Mhz): 28; Rating: Catalog; Technology Family: HC; Voltage(Nom)(V): 3.3,5; Schmitt Trigger: No; Output Drive (IOL/IOH)(Max)(mA): 5.2/-5.2; tpd @ Nom Voltage(Max)(ns): 55; DatasheetVersion: SCLS122D; PackageReference: N0016A; Supplier 1: Mouser; Supplier Part Number 1: 595-SN74HC193N; Supplier 2: Digi-Key; Supplier Part Number 2: 296-8262-5-ND; Function: Counter; Operating Temperature Range(C): -40 to 85; Type: Binary; Code_JEDEC: MS-001; ComponentLink1Description: Manufacturer URL; ComponentLink1URL: http://www.ti.com/; ComponentLink2Description: Datasheet; ComponentLink2URL: http://www.ti.com/lit/ds/symlink/sn74hc193.pdf; ComponentLink3Description: Package Specification; ComponentLink3URL: http://www.ti.com/lit/ml/mpdi002c/mpdi002c.pdf
footprint N0016A (DIP, 16-Leads, Body 19.7x6.6mm, Pitch 2.54mm)
pins: 1 B (in), 2 QB (out), 3 QA (out), 4 DOWN (in), 5 UP (in), 6 QC (out), 7 QD (out), 8 GND (power), 9 D (in), 10 C (in), 11 ~{LOAD} (in), 12 ~{CO} (out), 13 ~{BO} (out), 14 CLR (in), 15 A (in), 16 VCC (power)

## SN74HC193NSR
designator U?
4-Bit Synchronous Up/Down Counters (Dual Clock With Clear), NS0016A, LARGE T&R; Generic Part Number: SN74HC193; Manufacturer: Texas Instruments; PartNumber: SN74HC193NSR; VCC(Min)(V): 2; VCC(Max)(V): 6; Output Type: CMOS; Inputs: 1; ICC @ Nom Voltage(Max)(mA): 0.08; Input Type: LVTTL/CMOS; Bits(#): 4; F @ Nom Voltage(Max)(Mhz): 28; Rating: Catalog; Technology Family: HC; Voltage(Nom)(V): 3.3,5; Schmitt Trigger: No; Output Drive (IOL/IOH)(Max)(mA): 5.2/-5.2; tpd @ Nom Voltage(Max)(ns): 55; DatasheetVersion: SCLS122D; PackageReference: NS0016A; Supplier 1: Mouser; Supplier Part Number 1: 595-SN74HC193NSR; Supplier 2: Digi-Key; Supplier Part Number 2: 296-12891-2-ND; Supplier 3: Digi-Key; Supplier Part Number 3: 296-12891-1-ND; Supplier 4: Digi-Key; Supplier Part Number 4: 296-12891-6-ND; Function: Counter; Operating Temperature Range(C): -40 to 85; Type: Binary; ComponentLink1Description: Manufacturer URL; ComponentLink1URL: http://www.ti.com/; ComponentLink2Description: Datasheet; ComponentLink2URL: http://www.ti.com/lit/ds/symlink/sn74hc193.pdf; ComponentLink3Description: Package Specification; ComponentLink3URL: http://www.ti.com/lit/ml/msop002a/msop002a.pdf
footprint NS0016A_N (SOIC,16-Leads,Body 10.5x5.6mm,Pitch 1.27mm,IPC Medium Density)
footprint NS0016A_M (SOIC,16-Leads,Body 10.5x5.6mm,Pitch 1.27mm,IPC Low Density)
footprint NS0016A_L (SOIC,16-Leads,Body 10.5x5.6mm,Pitch 1.27mm,IPC High Density)
pins: 1 B (in), 2 QB (out), 3 QA (out), 4 DOWN (in), 5 UP (in), 6 QC (out), 7 QD (out), 8 GND (power), 9 D (in), 10 C (in), 11 ~{LOAD} (in), 12 ~{CO} (out), 13 ~{BO} (out), 14 CLR (in), 15 A (in), 16 VCC (power)

## SN74HC193PW
designator U?
4-Bit Synchronous Up/Down Counters (Dual Clock With Clear), PW0016A, TUBE; Generic Part Number: SN74HC193; Manufacturer: Texas Instruments; PartNumber: SN74HC193PW; VCC(Min)(V): 2; VCC(Max)(V): 6; Output Type: CMOS; Inputs: 1; ICC @ Nom Voltage(Max)(mA): 0.08; Input Type: LVTTL/CMOS; Bits(#): 4; F @ Nom Voltage(Max)(Mhz): 28; Rating: Catalog; Technology Family: HC; Voltage(Nom)(V): 3.3,5; Schmitt Trigger: No; Output Drive (IOL/IOH)(Max)(mA): 5.2/-5.2; tpd @ Nom Voltage(Max)(ns): 55; DatasheetVersion: SCLS122D; PackageReference: PW0016A; Supplier 1: Mouser; Supplier Part Number 1: 595-SN74HC193PW; Supplier 2: Digi-Key; Supplier Part Number 2: 296-33925-5-ND; Function: Counter; Operating Temperature Range(C): -40 to 85; Type: Binary; Code_JEDEC: MO-153; ComponentLink1Description: Manufacturer URL; ComponentLink1URL: http://www.ti.com/; ComponentLink2Description: Datasheet; ComponentLink2URL: http://www.ti.com/lit/ds/symlink/sn74hc193.pdf; ComponentLink3Description: Package Specification; ComponentLink3URL: http://www.ti.com/lit/ml/mpds361/mpds361.pdf
footprint PW0016A_N (SOP, 16-Leads, Body 5.1x4.5mm, Pitch 0.65mm, IPC Medium Density)
footprint PW0016A_M (SOP, 16-Leads, Body 5.1x4.5mm, Pitch 0.65mm, IPC Low Density)
footprint PW0016A_L (SOP, 16-Leads, Body 5.1x4.5mm, Pitch 0.65mm, IPC High Density)
pins: 1 B (in), 2 QB (out), 3 QA (out), 4 DOWN (in), 5 UP (in), 6 QC (out), 7 QD (out), 8 GND (power), 9 D (in), 10 C (in), 11 ~{LOAD} (in), 12 ~{CO} (out), 13 ~{BO} (out), 14 CLR (in), 15 A (in), 16 VCC (power)

## SN74HC193PWR
designator U?
4-Bit Synchronous Up/Down Counters (Dual Clock With Clear), PW0016A, LARGE T&R; Generic Part Number: SN74HC193; Manufacturer: Texas Instruments; PartNumber: SN74HC193PWR; VCC(Min)(V): 2; VCC(Max)(V): 6; Output Type: CMOS; Inputs: 1; ICC @ Nom Voltage(Max)(mA): 0.08; Input Type: LVTTL/CMOS; Bits(#): 4; F @ Nom Voltage(Max)(Mhz): 28; Rating: Catalog; Technology Family: HC; Voltage(Nom)(V): 3.3,5; Schmitt Trigger: No; Output Drive (IOL/IOH)(Max)(mA): 5.2/-5.2; tpd @ Nom Voltage(Max)(ns): 55; DatasheetVersion: SCLS122D; PackageReference: PW0016A; Supplier 1: Mouser; Supplier Part Number 1: 595-SN74HC193PWR; Supplier 2: Digi-Key; Supplier Part Number 2: SN74HC193PWR-ND; Function: Counter; Operating Temperature Range(C): -40 to 85; Type: Binary; Code_JEDEC: MO-153; ComponentLink1Description: Manufacturer URL; ComponentLink1URL: http://www.ti.com/; ComponentLink2Description: Datasheet; ComponentLink2URL: http://www.ti.com/lit/ds/symlink/sn74hc193.pdf; ComponentLink3Description: Package Specification; ComponentLink3URL: http://www.ti.com/lit/ml/mpds361/mpds361.pdf
footprint PW0016A_N (SOP, 16-Leads, Body 5.1x4.5mm, Pitch 0.65mm, IPC Medium Density)
footprint PW0016A_M (SOP, 16-Leads, Body 5.1x4.5mm, Pitch 0.65mm, IPC Low Density)
footprint PW0016A_L (SOP, 16-Leads, Body 5.1x4.5mm, Pitch 0.65mm, IPC High Density)
pins: 1 B (in), 2 QB (out), 3 QA (out), 4 DOWN (in), 5 UP (in), 6 QC (out), 7 QD (out), 8 GND (power), 9 D (in), 10 C (in), 11 ~{LOAD} (in), 12 ~{CO} (out), 13 ~{BO} (out), 14 CLR (in), 15 A (in), 16 VCC (power)

## SN74HC193QPWRG4Q1
designator U?
Automotive Catalog 4-Bit Synchronous Up/Down Counters (Dual Clock With Clear), PW0016A, LARGE T&R; Generic Part Number: SN74HC193-Q1; Manufacturer: Texas Instruments; PartNumber: SN74HC193QPWRG4Q1; VCC(Min)(V): 2; VCC(Max)(V): 6; Output Type: CMOS; Inputs: 1; ICC @ Nom Voltage(Max)(mA): 0.08; Input Type: LVTTL/CMOS; Bits(#): 4; F @ Nom Voltage(Max)(Mhz): 28; Technology Family: HC; Voltage(Nom)(V): 3.3,5; Schmitt Trigger: No; Output Drive (IOL/IOH)(Max)(mA): 5.2/-5.2; tpd @ Nom Voltage(Max)(ns): 55; DatasheetVersion: SCLS594A; PackageReference: PW0016A; Supplier 1: Mouser; Supplier Part Number 1: 595-N74HC193QPWRG4Q1; Supplier 2: Digi-Key; Supplier Part Number 2: 296-23644-2-ND; Supplier 3: Digi-Key; Supplier Part Number 3: 296-23644-1-ND; Supplier 4: Digi-Key; Supplier Part Number 4: 296-23644-6-ND; Function: Counter; Operating Temperature Range(C): -40 to 125; Type: Binary; Rating: Automotive; Code_JEDEC: MO-153; ComponentLink1Description: Manufacturer URL; ComponentLink1URL: http://www.ti.com/; ComponentLink2Description: Datasheet; ComponentLink2URL: http://www.ti.com/lit/ds/symlink/sn74hc193-q1.pdf; ComponentLink3Description: Package Specification; ComponentLink3URL: http://www.ti.com/lit/ml/mpds361/mpds361.pdf
footprint PW0016A_N (SOP, 16-Leads, Body 5.1x4.5mm, Pitch 0.65mm, IPC Medium Density)
footprint PW0016A_M (SOP, 16-Leads, Body 5.1x4.5mm, Pitch 0.65mm, IPC Low Density)
footprint PW0016A_L (SOP, 16-Leads, Body 5.1x4.5mm, Pitch 0.65mm, IPC High Density)
pins: 1 B (in), 2 QB (out), 3 QA (out), 4 DOWN (in), 5 UP (in), 6 QC (out), 7 QD (out), 8 GND (power), 9 D (in), 10 C (in), 11 ~{LOAD} (in), 12 ~{CO} (out), 13 ~{BO} (out), 14 CLR (in), 15 A (in), 16 VCC (power)

## SN74HC251D
designator U?
Data Selectors/Multiplexers With 3-State Outputs, D0016A, TUBE; Generic Part Number: SN74HC251; Manufacturer: Texas Instruments; PartNumber: SN74HC251D; VCC(Min)(V): 2; VCC(Max)(V): 6; Output Type: CMOS; Function: Encoder/Multiplexer; ICC @ Nom Voltage(Max)(mA): 0.08; Input Type: LVTTL/CMOS; Bits(#): 8; F @ Nom Voltage(Max)(Mhz): 28; Configuration: 8：1; Channels(#): 1; Rating: Catalog; Technology Family: HC; Voltage(Nom)(V): 3.3,5; Schmitt Trigger: No; Output Drive (IOL/IOH)(Max)(mA): 7.8/-7.8; tpd @ Nom Voltage(Max)(ns): 51; DatasheetVersion: SCLS132E; PackageReference: D0016A; Supplier 1: Mouser; Supplier Part Number 1: 595-SN74HC251D; Supplier 2: Digi-Key; Supplier Part Number 2: 296-8280-5-ND; Operating Temperature Range(C): -40 to 85; Type: 3-State Output; Code_JEDEC: MS-012 variation AC; ComponentLink1Description: Manufacturer URL; ComponentLink1URL: http://www.ti.com/; ComponentLink2Description: Datasheet; ComponentLink2URL: http://www.ti.com/lit/ds/symlink/sn74hc251.pdf; ComponentLink3Description: Package Specification; ComponentLink3URL: http://www.ti.com/lit/ml/mpds178g/mpds178g.pdf
footprint D0016A_N (SOIC, 16-Leads, Body 10x4mm, Pitch 1.27mm, IPC Medium Density)
footprint D0016A_M (SOIC, 16-Leads, Body 10x4mm, Pitch 1.27mm, IPC Low Density)
footprint D0016A_L (SOIC, 16-Leads, Body 10x4mm, Pitch 1.27mm, IPC High Density)
pins: 1 D3 (in), 2 D2 (in), 3 D1 (in), 4 D0 (in), 5 Y (hiz), 6 ~{W} (hiz), 7 ~{OE} (in), 8 GND (power), 9 C (in), 10 B (in), 11 A (in), 12 D7 (in), 13 D6 (in), 14 D5 (in), 15 D4 (in), 16 VCC (power)

## SN74HC251DBR
designator U?
Data Selectors/Multiplexers With 3-State Outputs, DB0016A, LARGE T&R; Generic Part Number: SN74HC251; Manufacturer: Texas Instruments; PartNumber: SN74HC251DBR; VCC(Min)(V): 2; VCC(Max)(V): 6; Output Type: CMOS; Function: Encoder/Multiplexer; ICC @ Nom Voltage(Max)(mA): 0.08; Input Type: LVTTL/CMOS; Bits(#): 8; F @ Nom Voltage(Max)(Mhz): 28; Configuration: 8：1; Channels(#): 1; Rating: Catalog; Technology Family: HC; Voltage(Nom)(V): 3.3,5; Schmitt Trigger: No; Output Drive (IOL/IOH)(Max)(mA): 7.8/-7.8; tpd @ Nom Voltage(Max)(ns): 51; DatasheetVersion: SCLS132E; PackageReference: DB0016A; Supplier 1: Mouser; Supplier Part Number 1: 595-SN74HC251DBR; Supplier 2: Digi-Key; Supplier Part Number 2: 296-12894-2-ND; Supplier 3: Digi-Key; Supplier Part Number 3: 296-12894-1-ND; Supplier 4: Digi-Key; Supplier Part Number 4: 296-12894-6-ND; Operating Temperature Range(C): -40 to 85; Type: 3-State Output; Code_JEDEC: MO-150; ComponentLink1Description: Manufacturer URL; ComponentLink1URL: http://www.ti.com/; ComponentLink2Description: Datasheet; ComponentLink2URL: http://www.ti.com/lit/ds/symlink/sn74hc251.pdf; ComponentLink3Description: Package Specification; ComponentLink3URL: http://www.ti.com/lit/ml/mpds507/mpds507.pdf
footprint DB0016A_N (SOP, 16-Leads, Body 5.6x6.5mm, Pitch 0.65mm, IPC Medium Density)
footprint DB0016A_M (SOP, 16-Leads, Body 5.6x6.5mm, Pitch 0.65mm, IPC Low Density)
footprint DB0016A_L (SOP, 16-Leads, Body 5.6x6.5mm, Pitch 0.65mm, IPC High Density)
pins: 1 D3 (in), 2 D2 (in), 3 D1 (in), 4 D0 (in), 5 Y (hiz), 6 ~{W} (hiz), 7 ~{OE} (in), 8 GND (power), 9 C (in), 10 B (in), 11 A (in), 12 D7 (in), 13 D6 (in), 14 D5 (in), 15 D4 (in), 16 VCC (power)

## SN74HC251DR
designator U?
Data Selectors/Multiplexers With 3-State Outputs, D0016A, LARGE T&R; Generic Part Number: SN74HC251; Manufacturer: Texas Instruments; PartNumber: SN74HC251DR; VCC(Min)(V): 2; VCC(Max)(V): 6; Output Type: CMOS; Function: Encoder/Multiplexer; ICC @ Nom Voltage(Max)(mA): 0.08; Input Type: LVTTL/CMOS; Bits(#): 8; F @ Nom Voltage(Max)(Mhz): 28; Configuration: 8：1; Channels(#): 1; Rating: Catalog; Technology Family: HC; Voltage(Nom)(V): 3.3,5; Schmitt Trigger: No; Output Drive (IOL/IOH)(Max)(mA): 7.8/-7.8; tpd @ Nom Voltage(Max)(ns): 51; DatasheetVersion: SCLS132E; PackageReference: D0016A; Supplier 1: Mouser; Supplier Part Number 1: 595-SN74HC251DR; Supplier 2: Digi-Key; Supplier Part Number 2: 296-14844-2-ND; Supplier 3: Digi-Key; Supplier Part Number 3: 296-14844-1-ND; Supplier 4: Digi-Key; Supplier Part Number 4: 296-14844-6-ND; Operating Temperature Range(C): -40 to 85; Type: 3-State Output; Code_JEDEC: MS-012 variation AC; ComponentLink1Description: Manufacturer URL; ComponentLink1URL: http://www.ti.com/; ComponentLink2Description: Datasheet; ComponentLink2URL: http://www.ti.com/lit/ds/symlink/sn74hc251.pdf; ComponentLink3Description: Package Specification; ComponentLink3URL: http://www.ti.com/lit/ml/mpds178g/mpds178g.pdf
footprint D0016A_N (SOIC, 16-Leads, Body 10x4mm, Pitch 1.27mm, IPC Medium Density)
footprint D0016A_M (SOIC, 16-Leads, Body 10x4mm, Pitch 1.27mm, IPC Low Density)
footprint D0016A_L (SOIC, 16-Leads, Body 10x4mm, Pitch 1.27mm, IPC High Density)
pins: 1 D3 (in), 2 D2 (in), 3 D1 (in), 4 D0 (in), 5 Y (hiz), 6 ~{W} (hiz), 7 ~{OE} (in), 8 GND (power), 9 C (in), 10 B (in), 11 A (in), 12 D7 (in), 13 D6 (in), 14 D5 (in), 15 D4 (in), 16 VCC (power)